# Altium schematic symbol library AG.SchLib: 32 symbols
Pins are listed as number, name and electrical type; pins without a type are passive.

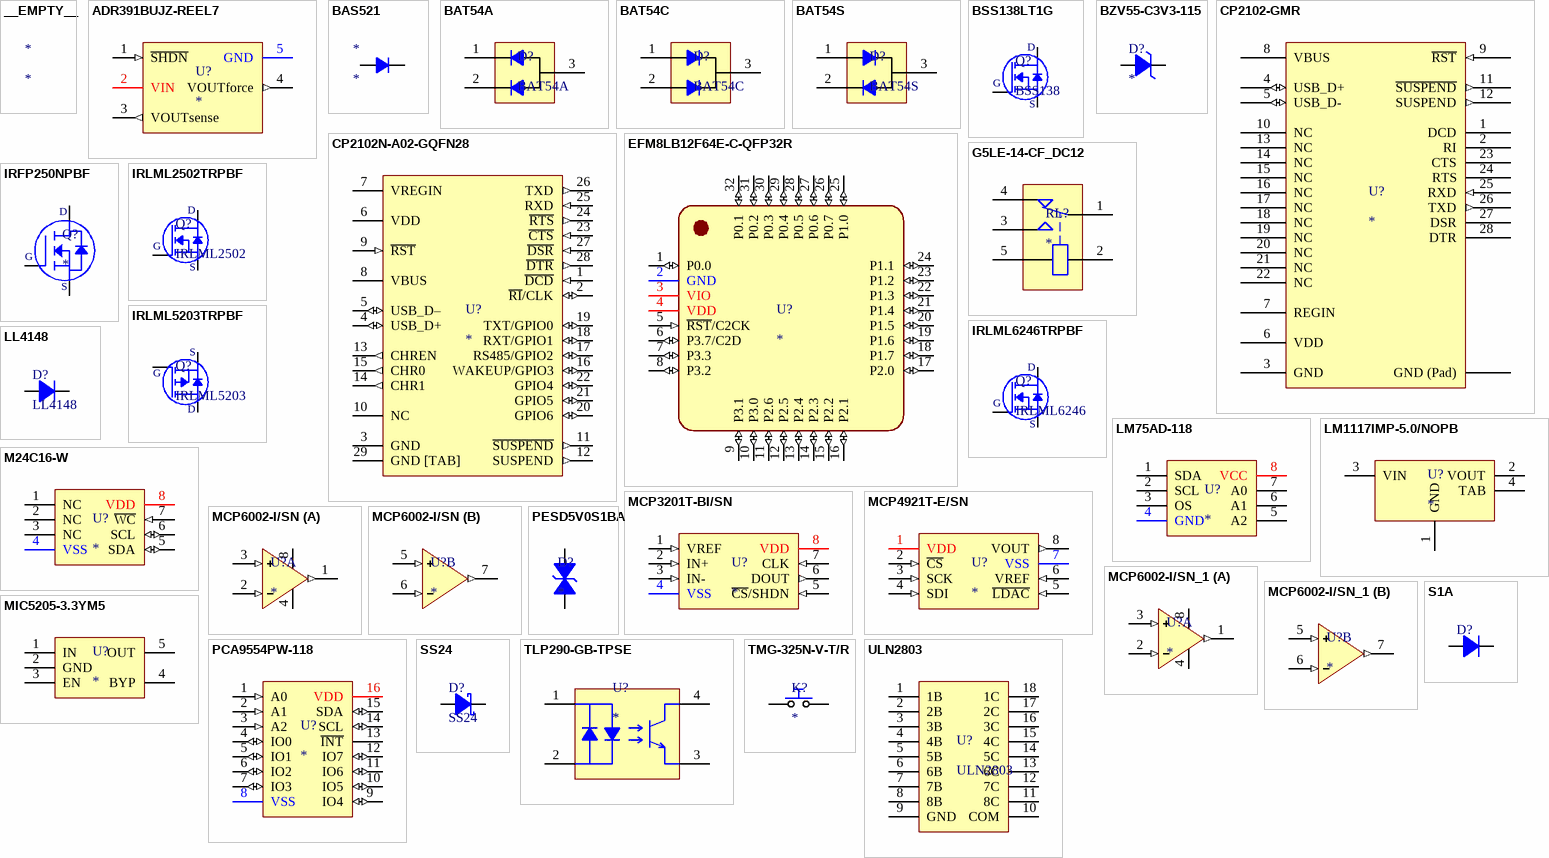
[diagram p0: symbols __EMPTY__ to ULN2803]

## __EMPTY__
designator *
Supplier: *; URL: *; SMD: *; PartNo: *; Manufacturer: *; ProductNumber: *; UnitPrice: *; MountType: *; Package: *

## ADR391BUJZ-REEL7
designator U?
IC VREF SERIES 0.16% TSOT-5; Manufacturer: Analog Devices Inc.; PartNo: ADR391BUJZREEL7CT-ND; ProductNumber: ADR391BUJZ-REEL7; VoltageOutput: 2.5V; Supplier: DigiKey; MountType: SMD; URL: https://www.digikey.com/en/products/detail/analog-devices-inc/ADR391BUJZ-REEL7/655920; UnitPrice: $3.10; Package: TSOT-5
footprint TSOT-23-5-SOT23127P600-8N (ADR391)
pins: 1 ~{SHDN} (in), 2 VIN (power), 3 VOUTsense (out), 4 VOUTforce (out), 5 GND (power)

## BAS521
designator *
pins: 1 A, 2 C

## BAT54A
designator D?
DIODE ARRAY SCHOTTKY COMM ANODE 30V 0.2A SOT-23; PartNo: BAT54A-FDICT-ND; Manufacturer: Diodes Incorporated; DiodeConfiguration: 1 Pair Common Anode; ProductNumber: BAT54A-7-F; BaseProduct: BAT54A; Supplier: DigiKey; URL: https://www.digikey.com/en/products/detail/diodes-incorporated/BAT54A-7-F/815045; MountingTechnology: SMT; UnitPrice: $0.18; Package: SOT-23-3
footprint SOT-23-127P600-8N
pins: 1 A1, 2 A2, 3 C

## BAT54C
designator D?
DIODE ARRAY SCHOTTKY COMM CATH 30V 0.2A SOT-23; PartNo: BAT54C-FDICT-ND; Manufacturer: Diodes Incorporated; DiodeConfiguration: 1 Pair Common Cathode; ProductNumber: BAT54C-7-F; BaseProduct: BAT54C; Supplier: DigiKey; URL: https://www.digikey.com/en/products/detail/diodes-incorporated/BAT54C-7-F/717701; MountingTechnology: SMT; UnitPrice: $0.18; Package: SOT-23-3
footprint SOT-23-127P600-8N
pins: 1 A1, 2 A2, 3 C

## BAT54S
designator D?
DIODE ARRAY SCHOTTKY SERIES 30V 0.2A SOT-23; Manufacturer: Diodes Incorporated; DiodeConfiguration: 1 Pair Series; BaseProduct: BAT54S; Supplier: DigiKey; MountingTechnology: SMT; UnitPrice: $0.18; Package: SOT-23-3
footprint SOT-23-127P600-8N
pins: 1 A1, 2 A2, 3 C
1 alternate drawing of the same symbol

## BSS138LT1G
designator Q?, comment BSS138
MOSFET N-CH 50V 200MA SOT23-3; PartNo: BSS138LT1GOSCT-ND; Manufacturer: ON Semiconductor; ProductNumber: BSS138LT1G; ShippingPackage: Cut Tape (CT); Supplier: DigiKey; UnitPrice: $0.25; URL: https://www.digikey.com/en/products/detail/on-semiconductor/BSS138LT1G/918376; Packaging: SOT-23-3
footprint SOT-23-127P600-8N
pins: 1 G, 2 S, 3 D

## BZV55-C3V3-115
designator D?
DIODE ZENER 3.3V 500MW SOD80C; PartNo: 1727-4970-1-ND; Manufacturer: Nexperia USA Inc.; ProductNumber: BZV55-C3V3,115; Supplier: DigiKey; URL: https://www.digikey.com/en/products/detail/nexperia-usa-inc/BZV55-C3V3115/1155572; UnitPrice: $0.17; MountType: SMD; Package: SOD-80-C
footprint SOD-80-C-DIOMELF3515N
pins: 1 A, 2 C

## CP2102-GMR
designator U?
[Obsolete] USB UART Converter
pins: 1 DCD, 2 RI, 3 GND (power), 4 USB_D+ (io), 5 USB_D- (io), 6 VDD (power), 7 REGIN (power), 8 VBUS (power), 9 ~{RST} (in), 10 NC, 11 ~{SUSPEND} (out), 12 SUSPEND (out), 13 NC, 14 NC, 15 NC, 16 NC, 17 NC, 18 NC, 19 NC, 20 NC, 21 NC, 22 NC, 23 CTS, 24 RTS, 25 RXD (in), 26 TXD (out), 27 DSR, 28 DTR, ?1 GND (Pad) (power)

## CP2102N-A02-GQFN28
designator U?
USB UART Converter [QFN-28]
pins: 1 ~{DCD} (in), 2 ~{RI}/CLK (io), 3 GND (power), 4 USB_D+ (io), 5 USB_D– (io), 6 VDD (power), 7 VREGIN (power), 8 VBUS (power), 9 ~{RST} (in), 10 NC, 11 ~{SUSPEND} (out), 12 SUSPEND (out), 13 CHREN (out), 14 CHR1 (out), 15 CHR0 (out), 16 WAKEUP/GPIO3 (io), 17 RS485/GPIO2 (io), 18 RXT/GPIO1 (io), 19 TXT/GPIO0 (io), 20 GPIO6 (io), 21 GPIO5 (io), 22 GPIO4 (io), 23 ~{CTS} (in), 24 ~{RTS} (out), 25 RXD (in), 26 TXD (out), 27 ~{DSR} (in), 28 ~{DTR} (out), 29 GND [TAB] (power)

## EFM8LB12F64E-C-QFP32R
designator U?
CIP-51 8051 series Microcontroller IC 8-Bit 72MHz 64KB (64K x 8) FLASH 32-QFP (7x7); DIGIKEY_URL: https://www.digikey.com/en/products/detail/silicon-labs/EFM8LB12F64E-C-QFP32R/9770974; DIGIKEY_PART_NO: 336-5843-1-ND; DIGIKEY_UNIT_PRICE: $2.04
footprint TQFP80P900X900X120-32N (TQFP, 32-Leads, Body 7.00x7.00mm, Pitch 0.80mm, IPC Medium Density)
pins: 1 P0.0 (io), 2 GND (power), 3 VIO (power), 4 VDD (power), 5 ~{RST}/C2CK (in), 6 P3.7/C2D (io), 7 P3.3 (io), 8 P3.2 (io), 9 P3.1 (io), 10 P3.0 (io), 11 P2.6 (io), 12 P2.5 (io), 13 P2.4 (io), 14 P2.3 (io), 15 P2.2 (io), 16 P2.1 (io), 17 P2.0 (io), 18 P1.7 (io), 19 P1.6 (io), 20 P1.5 (io), 21 P1.4 (io), 22 P1.3 (io), 23 P1.2 (io), 24 P1.1 (io), 25 P1.0 (io), 26 P0.7 (io), 27 P0.6 (io), 28 P0.5 (io), 29 P0.4 (io), 30 P0.3 (io), 31 P0.2 (io), 32 P0.1 (io)

## G5LE-14-CF_DC12
designator RL?
RELAY GEN PURPOSE SPDT 10A 12V; PartNo: Z5216-ND; Manufacturer: Omron Electronics Inc-EMC Div; ProductNumber: G5LE-14-CF DC12; DetailedDescription: General Purpose Relay SPDT (1 Form C) 12VDC Coil Through Hole; ShippingPackage: Tube; CoilType: Non-Latching; RelayType: General Purpose; CoilResistance: 360 Ohm; SealRating: Full; ContactForm: SPDT (1 Form C); Supplier: DigiKey; URL: https://www.digikey.com/en/products/detail/omron-electronics-inc-emc-div/G5LE-14-CF-DC12/368993; UnitPrice: $1.69; CoilVoltage: 12V; ContactRating: 10A
footprint G5LE-14 (RELAY GEN PURPOSE SPDT)
pins: 1 COM, 2 SW2, 3 NO, 4 NC, 5 SW1

## IRFP250NPBF
designator Q?
MOSFET N-CH 200V 30A TO-247AC; DIGIKEY_PART_NO: IRFP250NPBF-ND; DIGIKEY_URL: https://www.digikey.com/en/products/detail/infineon-technologies/IRFP250NPBF/811582; DIGIKEY_UNIT_PRICE: $1.88
footprint TO-247AC_EPOT (TO-247AC Exposed Pad On-Top (Horizontal))
pins: 1 G, 2 D, 3 S

## IRLML2502TRPBF
designator Q?, comment IRLML2502
MOSFET N-CH 20V 4.2A SOT-23; PartNo: IRLML2502TRPBFCT-ND; Manufacturer: Infineon Technologies; ProductNumber: IRLML2502TRPBF; ShippingPackage: Cut Tape (CT); DetailedDescription: N-Channel 4.2A (Ta) 1.25W (Ta) Surface Mount Micro3™ SOT-23; Supplier: DigiKey; UnitPrice: $0.44; URL: https://www.digikey.com/en/products/detail/infineon-technologies/IRLML2502TRPBF/811439; Packaging: SOT-23-3; BaseProduct: IRLML2502
footprint SOT-23-127P600-8N
pins: 1 G, 2 S, 3 D

## IRLML5203TRPBF
designator Q?, comment IRLML5203
MOSFET P-CH 30V 3A SOT-23; PartNo: IRLML5203TRPBFCT-ND; Manufacturer: Infineon Technologies; ProductNumber: IRLML5203TRPBF; Supplier: DigiKey; URL: https://www.digikey.com/en/products/detail/infineon-technologies/IRLML5203TRPBF/1928176; UnitPrice: $0.40; MountType: SMD; Package: SOT-23-3; BaseProduct: IRLML5203
footprint SOT-23-127P600-8N
pins: 1 G, 2 S, 3 D

## IRLML6246TRPBF
designator Q?, comment IRLML6246
MOSFET N-CH 20V 4.1A SOT-23; PartNo: IRLML6246TRPBFCT-ND; Manufacturer: Infineon Technologies; ProductNumber: IRLML6246TRPBF; ShippingPackage: Cut Tape (CT); DetailedDescription: N-Channel 4.1A (Ta) 1.3W (Ta) Surface Mount Micro3™ SOT-23; Supplier: DigiKey; UnitPrice: $0.38; URL: https://www.digikey.com/en/products/detail/infineon-technologies/IRLML6246TRPBF/2393874; Packaging: SOT-23-3; BaseProduct: IRLML6246
footprint SOT-23-127P600-8N
footprint SOT-23-127P600-8N
pins: 1 G, 2 S, 3 D

## LL4148
designator D?
DIODE GEN PURP 75V 150MA SOD80C; PartNo: 2721-LL4148TR-ND; Manufacturer: Diotec / Vishay; URL: https://www.digikey.com/en/products/detail/diotec/LL4148/12617548; Supplier: DComponents; ProductNumber: LL4148; MountType: SMD; Packaging: SOD-80C
pins: 1 A, 2 C

## LM75AD-118
designator U?
SENSOR DIGITAL -55C-125C 8SO; PartNo: 568-10295-1-ND; Manufacturer: NXP USA Inc.; ProductNumber: LM75AD,118; ShippingPackage: Cut Tape (CT); DetailedDescription: Temperature Sensor Digital, Local -55°C ~ 125°C 11 b 8-SO; Supplier: DigiKey; URL: https://www.digikey.com/en/products/detail/nxp-usa-inc/LM75AD118/1692795; UnitPrice: $0.74; Package: 8-SOIC (0.154", 3.90mm Width)
footprint SOIC127P600X175-8N (SOIC, 8-Leads, Body 4.90x3.90mm, Pitch 1.27mm, IPC Medium Density)
pins: 1 SDA, 2 SCL, 3 OS, 4 GND, 5 A2, 6 A1, 7 A0, 8 VCC

## LM1117IMP-5.0/NOPB
designator U?
IC REG LINEAR 5V 800MA SOT223; PartNo: LM1117IMP-5.0/NOPBCT-ND; Manufacturer: Texas Instruments; DetailedDescription: Linear Voltage Regulator IC Output 800mA SOT-223; ShippingPackage: Cut Tape (CT); MaxInputVoltage: 15V; VoltageDropout: 1.2V; ProductNumber: LM1117IMP-5.0/NOPB; Supplier: DigiKey; URL: https://www.digikey.com/en/products/detail/texas-instruments/LM1117IMP-5-0-NOPB/482940; UnitPrice: $1.10; Package: SOT-223; OutputVoltage: 5V; OutputCurrent: 800mA
footprint SOT-223_127P600-8N
pins: 1 GND, 2 VOUT, 3 VIN, 4 TAB

## M24C16-W
designator U?
IC SRL EEPROM 16KBIT 2.5V 8-SOIC; Manufacturer: STMicroelectronics; Manufacturer Product Number: M24C16-WMN6TP; Base Product Number: M24C16; Supplier: DigiKey; Supplier URL: https://www.digikey.com/en/products/detail/stmicroelectronics/M24C16-WMN6TP/1007246; Supplier Part No: 497-17785-1-ND; Supplier Package: Cut Tape; Mounting Type: SMT; Operating Temperature: -40°C ~ 85°C (TA); Supplier Price: $0.14
footprint SO-8-SOIC127P600X175-8N
pins: 1 NC, 2 NC, 3 NC, 4 VSS (power), 5 SDA (io), 6 SCL (io), 7 ~{WC} (in), 8 VDD (power)

## MCP3201T-BI/SN
designator U?
IC ADC 12BIT SAR 8SOIC; PartNo: MCP3201T-BI/SNCT-ND; Manufacturer: Microchip Technology; ProductCode: MCP3201T-BI/SN; Supplier: DigiKey; URL: https://www.digikey.com/en/products/detail/microchip-technology/MCP3201T-BI-SN/319428; UnitPrice: $2.66; MountType: SMD
footprint SOIC127P600X175-8N (SOIC, 8-Leads, Body 4.90x3.90mm, Pitch 1.27mm, IPC Medium Density)
pins: 1 VREF (in), 2 IN+ (in), 3 IN- (in), 4 VSS (power), 5 ~{CS}/SHDN (in), 6 DOUT (out), 7 CLK (in), 8 VDD (power)

## MCP4921T-E/SN
designator U?
IC DAC 12BIT V-OUT 8SOIC; PartNo: MCP4921T-E/SNCT-ND; Manufacturer: Microchip Technology; Supplier: DigiKey; Product: MCP4921T-E/SN; UnitPrice: $1.97; URL: https://www.digikey.com/en/products/detail/microchip-technology/MCP4921T-E-SN/716059; MountType: SMD
footprint SOIC127P600X175-8N (SOIC, 8-Leads, Body 4.90x3.90mm, Pitch 1.27mm, IPC Medium Density)
pins: 1 VDD (power), 2 ~{CS} (in), 3 SCK (in), 4 SDI (in), 5 ~{LDAC} (in), 6 VREF (in), 7 VSS (power), 8 VOUT (out)

## MCP6002-I/SN
designator U?
IC OPAMP GP 2 CIRCUIT 8SOIC; DIGIKEY_PART_NO: MCP6002-I/SN-ND; DIGIKEY_URL: https://www.digikey.com/en/products/detail/microchip-technology/MCP6002-I-SN/500876; DIGIKEY_UNIT_PRICE: $0.33
footprint SOIC127P600X175-8N (SOIC, 8-Leads, Body 4.90x3.90mm, Pitch 1.27mm, IPC Medium Density)
part A pins: 1 (out), 2 (in), 3 (in), 4 (power), 8 (power)
part B pins: 5 (in), 6 (in), 7 (out)

## MCP6002-I/SN_1
designator U?
IC OPAMP GP 2 CIRCUIT 8SOIC; PartNo: MCP6002-I/SN-ND; Manufacturer: Microchip Technology; ProductNumber: MCP6002-I/SN; URL: https://www.digikey.com/en/products/detail/microchip-technology/MCP6002-I-SN/500876; UnitPrice: $0.33; Supplier: DigiKey; MountingTechnology: SMT
footprint SO-8-SOIC127P600X175-8N
part A pins: 1 (out), 2 (in), 3 (in), 4 (power), 8 (power)
part B pins: 5 (in), 6 (in), 7 (out)

## MIC5205-3.3YM5
designator U?
IC REG LINEAR 3.3V 150MA SOT23-5; Supplier URL: https://www.digikey.com/en/products/detail/microchip-technology/MIC5205-3-3YM5-TR/771728; Supplier Part No: 576-1259-1-ND
pins: 1 IN, 2 GND, 3 EN, 4 BYP, 5 OUT

## PCA9554PW-118
designator U?
IC I/O EXPANDER I2C 8B 16TSSOP; PartNo: 568-1055-1-ND; Manufacturer: NXP USA Inc.; ManufacturerCode: PCA9554PW,118; Supplier: DigiKey; URL: https://www.digikey.com/en/products/detail/nxp-usa-inc/PCA9554PW118/735669; UnitPrice: $1.56
footprint TSSOP-16-SOP127P600-8N (TSSOP-16)
pins: 1 A0 (in), 2 A1 (in), 3 A2 (in), 4 IO0 (io), 5 IO1 (io), 6 IO2 (io), 7 IO3 (io), 8 VSS (power), 9 IO4 (io), 10 IO5 (io), 11 IO6 (io), 12 IO7 (io), 13 ~{INT} (oc), 14 SCL (io), 15 SDA (io), 16 VDD (power)

## PESD5V0S1BA
designator D?
TVS DIODE 5V 14V SOD323; Manufacturer: Nexperia USA Inc.; Manufacturer Product Number: PESD5V0S1BA,115; Mounting Technology: SMT; Supplier: DigiKey; Supplier Part No: 1727-3837-1-ND; Supplier URL: https://www.digikey.com/en/products/detail/nexperia-usa-inc/PESD5V0S1BA115/1157463
pins: 1, 2

## S1A
designator D?  (value not drawn)
DIODE GEN PURP 50V 1A SMA; Manufacturer: ON Semiconductor; PartNo: S1AFSCT-ND; ProductNumber: S1A; Supplier: DigiKey; URL: https://www.digikey.com/en/products/detail/on-semiconductor/S1A/965462; UnitPrice: $0.21; MountType: SMD; Packaging: DO-214AC
pins: 1 A, 2 C

## SS24
designator D?
DIODE SCHOTTKY 40V 2A SMB; Manufacturer: ON Semiconductor; PartNo: SS24T3GOSCT-ND; ProductNumber: SS24T3G; URL: https://www.digikey.com/en/products/detail/on-semiconductor/SS24T3G/920311; UnitPrice: $0.40; MountingTechnology: SMT; Supplier: DigiKey; Case: DO-214AA, SMB
pins: 1 A, 2 C

## TLP290-GB-TPSE
designator U?
OPTOISOLATOR 3.75KV TRANS 4-SO; URL: https://www.digikey.co.uk/product-detail/en/toshiba-semiconductor-and-storage/TLP290-GB-TPSE/TLP290-GB-TPSECT-ND/4562941; MountingTechnology: SMT
footprint SO-4-SOIC127P600-8N (SO-4 Footprint for TLP290)
pins: 1, 2, 3, 4

## TMG-325N-V-T/R
designator K?
Tactile Switches Thinner Type Tactile Switch 6x3.7x2.5mm; Part No.: 113-TMG-325N-V-T/R; Distributor: Mouser
pins: 1 COM, 2 NO

## ULN2803
designator U?
TRANS 8NPN DARL 50V 0.5A 18SO; Manufacturer: Texas Instruments; ProductNumber: ULN2803ADWR; BaseProduct: ULN2803; URL: https://www.digikey.com/en/products/detail/texas-instruments/ULN2803ADWR/598097; Supplier: DigiKey; UnitPrice: $1.29; MountingTechnology: SMT
footprint SOIC-18
pins: 1 1B, 2 2B, 3 3B, 4 4B, 5 5B, 6 6B, 7 7B, 8 8B, 9 GND (power), 10 COM, 11 8C, 12 7C, 13 6C, 14 5C, 15 4C, 16 3C, 17 2C, 18 1C